# Altium footprint library Connectors.PcbLib: 2 footprints
Each footprint in its own frame and in the unit in brackets; x right, y up, seen from the top. Pads: shape width x height; smd on the part's side, far side on the other; paste and mask are expansions set on the pad; w line width, h text height; cw(c..) or ccw(c..) is an arc to the next point about the centre after c.
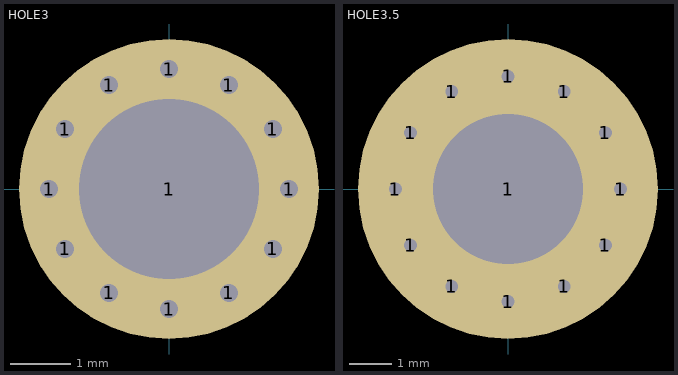
[diagram p0: the footprints below, top view; thin cyan lines are the x and y axes]

## HOLE3 [mm]
pads (13):
  round 1 hole 0.3: 1(-2,0) 1(-1.732,-1) 1(-1.732,1) 1(-1,-1.732) 1(-1,1.732) 1(0,-2) 1(0,2) 1(1,-1.732) 1(1,1.732) 1(1.732,-1) 1(1.732,1) 1(2,0)
  round 5 hole 3: 1(0,0)

## HOLE3.5 [mm]
pads (13):
  round 1 hole 0.3: 1(-2.625,0) 1(-2.273,-1.312) 1(-2.273,1.312) 1(-1.312,2.273) 1(-1.312,-2.273) 1(0,-2.625) 1(0,2.625) 1(1.312,-2.273) 1(1.312,2.273) 1(2.273,-1.312) 1(2.273,1.312) 1(2.625,0)
  round 7 hole 3.5: 1(0,0)